# EAGLE library part BQ24295 (library battery-management-temp)
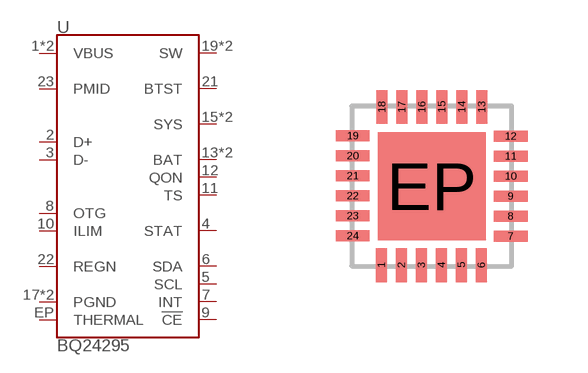
[diagram p0: symbol with the pads of PVQFN-N24; footprint PVQFN-N24]

Designator prefix U

## BQ24295  [PVQFN-N24]
1  VBUS
2  D+
3  D-
4  STAT
5  SCL
6  SDA
7  INT
8  OTG
9  !CE!
10  ILIM
11  TS
12  QON
13  BAT
14  BAT
15  SYS
16  SYS
17  PGND
18  PGND
19  SW
20  SW
21  BTST
22  REGN
23  PMID
24  VBUS
EP  THERMAL

## Footprint PVQFN-N24 (pad centres in mm)
smd 0.28 x 0.85: 1 -1.255,-1.975; 2 -0.755,-1.975; 3 -0.255,-1.975; 4 0.245,-1.975; 5 0.745,-1.975; 6 1.245,-1.975; 13 1.255,1.975; 14 0.755,1.975; 15 0.255,1.975; 16 -0.245,1.975; 17 -0.745,1.975; 18 -1.245,1.975
smd 0.85 x 0.28: 7 1.975,-1.255; 8 1.975,-0.755; 9 1.975,-0.255; 10 1.975,0.245; 11 1.975,0.745; 12 1.975,1.245; 19 -1.975,1.255; 20 -1.975,0.755; 21 -1.975,0.255; 22 -1.975,-0.245; 23 -1.975,-0.745; 24 -1.975,-1.245
smd 2.7 x 2.7: EP 0,0